# Altium footprint library HTSOP-J8_ROM-M.PcbLib: 1 footprints
Each footprint in its own frame and in the unit in brackets; x right, y up, seen from the top. Pads: shape width x height; smd on the part's side, far side on the other; paste and mask are expansions set on the pad; w line width, h text height; cw(c..) or ccw(c..) is an arc to the next point about the centre after c.
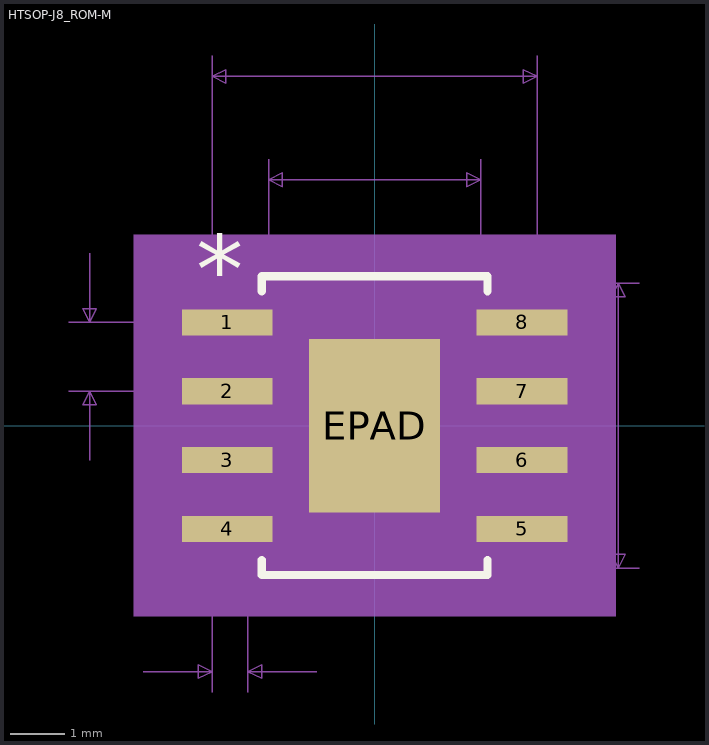
[diagram p0: the footprint, top view; thin cyan lines are the x and y axes]

## HTSOP-J8_ROM-M [mil]
pads (9):
  rect 66x19 smd paste+0 mask+0: 1(-107,75) 2(-107,25) 3(-107,-25) 4(-107,-75) 5(107,-75) 6(107,-25) 7(107,25) 8(107,75)
  rect 95x126 smd paste-62.5 mask+0: EPAD(0,0)
Top Overlay:
  lines w6: -82,-97.6 -82,-108.5 82,-108.5 82,-97.6 ; -82,97.6 -82,108.5 82,108.5 82,97.6
  text "*" at -129.5,89 h50
Top Paste:
  region: 43.56,-3.94 -43.56,-3.94 -43.56,-59.06 43.56,-59.06
  region: 43.56,59.06 -43.56,59.06 -43.56,3.94 43.56,3.94
Mechanical 5:
  region: 175,-138.5 -175,-138.5 -175,138.5 175,138.5
Mechanical 7:
  lines w1: -222,25 -107,25 ; -222,75 -107,75 ; -207,-25 -207,25 ; -207,125 -207,75 ; -168,-178.5 -118,-178.5 ; -118,-193.5 -118,0 -118,268.5 ; -92,-193.5 -92,0 ; -77,0 -77,193.5 ; -42,-178.5 -92,-178.5 ; 0,-103.5 192,-103.5 ; 0,103.5 192,103.5 ; 77,0 77,193.5 ; 118,0 118,268.5 ; -207,25 -202,15 -212,15 -207,25 ; -207,75 -202,85 -212,85 -207,75 ; -118,-178.5 -128,-183.5 -128,-173.5 -118,-178.5 ; -118,253.5 -108,248.5 -108,258.5 -118,253.5 ; -118,253.5 118,253.5 ; -92,-178.5 -82,-183.5 -82,-173.5 -92,-178.5 ; -77,178.5 -67,173.5 -67,183.5 -77,178.5 ; -77,178.5 77,178.5 ; 77,178.5 67,173.5 67,183.5 77,178.5 ; 118,253.5 108,248.5 108,258.5 118,253.5 ; 177,-103.5 182,-93.5 172,-93.5 177,-103.5 ; 177,-103.5 177,103.5 ; 177,103.5 182,93.5 172,93.5 177,103.5
  text "0.026in/0.66mm" at -192.5,-223.5 h25
  text "0.05in/1.27mm" at -389.5,37.5 h25
  text "0.207in/5.258mm" at 197,-12.5 h25
  text "0.236in/5.994mm" at -93.75,273.5 h25
  text "0.154in/3.912mm" at -93.75,198.5 h25
  text "Alt 2 Padstyle: OX90Y60D30P" at -337.5,-603.5 h50
  text "Alt 1 Padstyle: OX60Y90D30P" at -337.5,-543.5 h50
  text "Heat Tab Padstyle: RX95Y126D0T" at -375,-423.5 h50
  text "Pin One Padstyle: RX66Y19D0T" at -350,-363.5 h50
  text "Default Padstyle: RX66Y19D0T" at -350,-303.5 h50
Mechanical 13:
  lines w0: -12,103.5 ccw(c0,103.5) 12,103.5
  lines w1: -118,-83.5 -77,-83.5 -77,-66.5 -118,-66.5 -118,-83.5 ; -118,-33.5 -77,-33.5 -77,-16.5 -118,-16.5 -118,-33.5 ; -118,16.5 -77,16.5 -77,33.5 -118,33.5 -118,16.5 ; -118,66.5 -77,66.5 -77,83.5 -118,83.5 -118,66.5 ; -77,-103.5 -77,103.5 77,103.5 77,-103.5 -77,-103.5 ; 77,-83.5 118,-83.5 118,-66.5 77,-66.5 77,-83.5 ; 77,-33.5 118,-33.5 118,-16.5 77,-16.5 77,-33.5 ; 77,16.5 118,16.5 118,33.5 77,33.5 77,16.5 ; 77,66.5 118,66.5 118,83.5 77,83.5 77,66.5
  text "*" at -74.5,50.5 h50
Mechanical 15:
  region: -97,-104.5 -160,-104.5 -160,104.5 -97,104.5 -97,123.5 97,123.5 97,104.5 160,104.5 160,-104.5 97,-104.5 97,-123.5 -97,-123.5
  lines w6: -160,-104.5 -97,-104.5 -97,-123.5 97,-123.5 97,-104.5 160,-104.5 160,104.5 97,104.5 97,123.5 -97,123.5 -97,104.5 -160,104.5 -160,-104.5
3D body: height 10, standoff 0, extent 0,0 10,10